# EAGLE library part LCD (library LCD)
Character LCD Standard Format
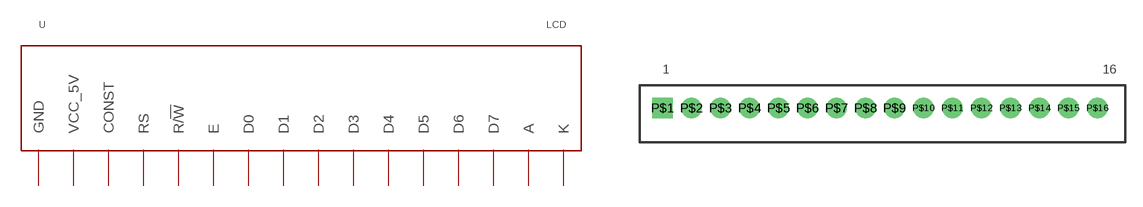
[diagram p0: symbol with the pads of CLCD; footprint CLCD]

Designator prefix U

## LCD_CHARATCTER  [CLCD]
P$1  GND  pwr
P$2  VCC_5V  pwr
P$3  CONST  pwr
P$4  RS
P$5  R/!W!
P$6  E
P$7  D0
P$8  D1
P$9  D2
P$10  D3
P$11  D4
P$12  D5
P$13  D6
P$14  D7
P$15  A  pwr
P$16  K  pwr

## Footprint CLCD (pad centres in mm)
drill 1.2 square: P$1 0,0
drill 1.2: P$2 2.54,0; P$3 5.08,0; P$4 7.62,0; P$5 10.16,0; P$6 12.7,0; P$7 15.24,0; P$8 17.78,0; P$9 20.32,0; P$10 22.86,0; P$11 25.4,0; P$12 27.94,0; P$13 30.48,0; P$14 33.02,0; P$15 35.56,0; P$16 38.1,0